# EAGLE library part ULN2803ADWR (library work)
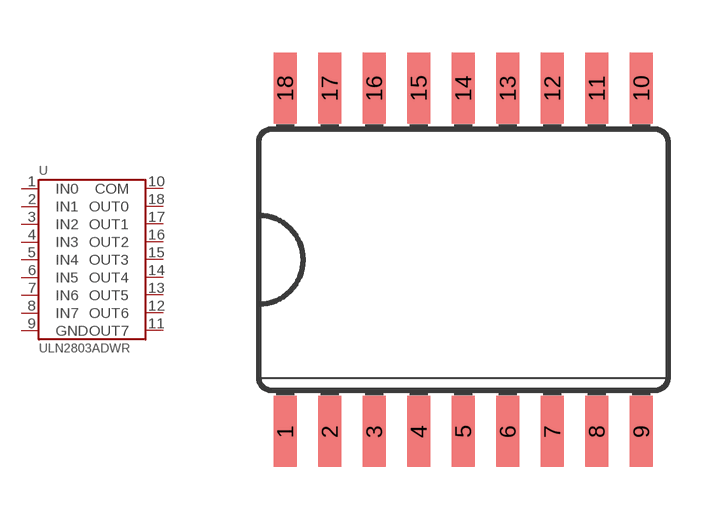
[diagram p37: symbol with the pads of SOIC18-W; footprint SOIC18-W]

Designator prefix U

## ULN2803ADWR  [SOIC18-W]
1  IN0
2  IN1
3  IN2
4  IN3
5  IN4
6  IN5
7  IN6
8  IN7
9  GND
10  COM
11  OUT7
12  OUT6
13  OUT5
14  OUT4
15  OUT3
16  OUT2
17  OUT1
18  OUT0

## Footprint SOIC18-W (pad centres in mm)
smd 0.66 x 2.032: 1 -5.08,-4.902; 2 -3.81,-4.902; 3 -2.54,-4.902; 4 -1.27,-4.902; 5 0,-4.902; 6 1.27,-4.902; 7 2.54,-4.902; 8 3.81,-4.902; 9 5.08,-4.902; 10 5.08,4.902; 11 3.81,4.902; 12 2.54,4.902; 13 1.27,4.902; 14 0,4.902; 15 -1.27,4.902; 16 -2.54,4.902; 17 -3.81,4.902; 18 -5.08,4.902